# EAGLE library part PRT-12807 (library PRT-12807)
SparkFun Accessories Header - 2x3 (Male, 0.1\") Source: Datasheet <https://cdn.sparkfun.com/datasheets/Prototyping/00989.pdf>
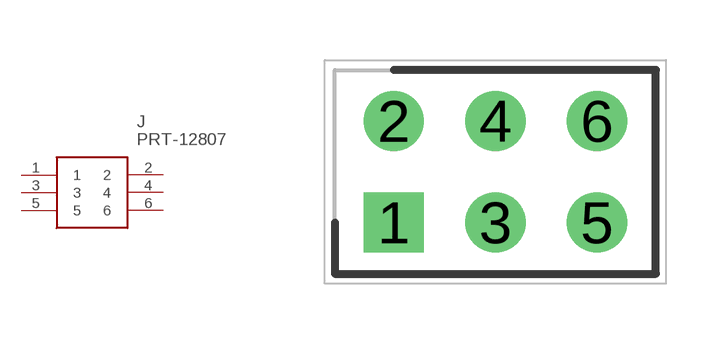
[diagram p0: symbol with the pads of HDRV6W82P254_2X3_762X500X884P; footprint HDRV6W82P254_2X3_762X500X884P]

Designator prefix J

## PRT-12807 (Description: SparkFun Accessories Header - 2x3 (Male, 0.1\"); Height: 8.84mm; Manufacturer_Name: SparkFun; Manufacturer_Part_Number: PRT-12807; Mouser_Part_Number: 474-PRT-12807; Mouser_Price-Stock: https://www.mouser.co.uk/ProductDetail/SparkFun/PRT-12807?qs=WyAARYrbSnYnpz4kKzOm4A%3D%3D)  [HDRV6W82P254_2X3_762X500X884P]
1  1
2  2
3  3
4  4
5  5
6  6

## Footprint HDRV6W82P254_2X3_762X500X884P (pad centres in mm)
PRT-12807
drill 1 pad 1.5 square: 1 0,0
drill 1 pad 1.5: 2 0,2.54; 3 2.54,0; 4 2.54,2.54; 5 5.08,0; 6 5.08,2.54